# Altium schematic symbol library Schlib1.SchLib: 8 symbols
Pins are listed as number, name and electrical type; pins without a type are passive.

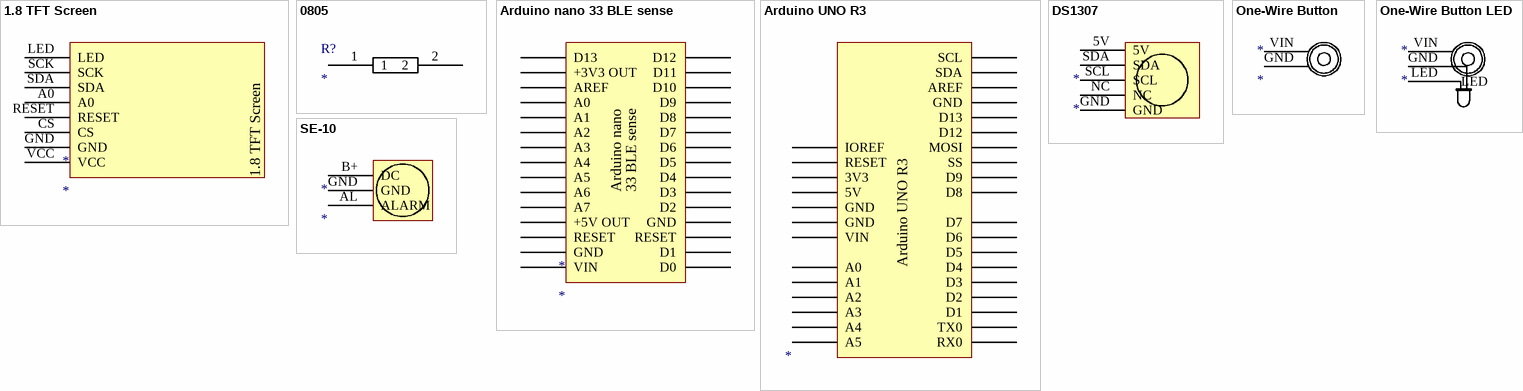
[diagram p0: symbols 1.8 TFT Screen to SE-10]

## 1.8 TFT Screen
designator *
pins: A0, CS, GND, LED, RESET, SCK, SDA, VCC

## 0805
designator R?
pins: 1, 2

## Arduino nano 33 BLE sense
designator *
pins: +3V3 OUT, +5V OUT, A0, A1, A2, A3, A4, A5, A6, A7, AREF, D0, D1, D2, D3, D4, D5, D6, D7, D8, D9, D10, D11, D12, D13, GND, GND, RESET, RESET, VIN
text: Arduino nano; 33 BLE sense

## Arduino UNO R3
designator ?
pins: 3V3, 5V VIN, 5V, A0, A1, A2, A3, A4, A5, AREF, D0 RX0, D1 TX0, D1, D2, D3, D4, D5, D6, D7, D8, D9, D10 SS, D11 MOSI, GND, GND, GROUND GND, IOREF, MISO D12, RESET, SCK D13, SCL, SDA

## DS1307
designator *
pins: 5V, GND, NC, SCL, SDA

## One-Wire Button
designator *
pins: GND, VIN

## One-Wire Button LED
designator *
pins: GND, LED, VIN

## SE-10
designator *
pins: AL ALARM, B+ DC, GND